# EAGLE library part AD8307 (library Arsenio_Dev)
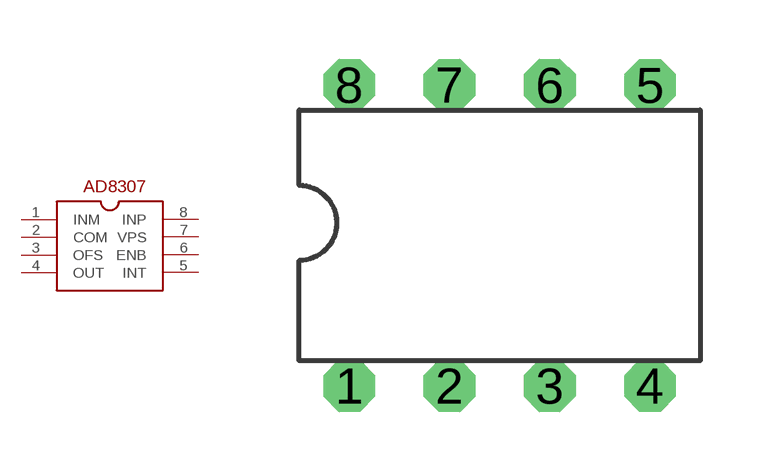
[diagram p2: symbol with the pads of DIP8; footprint DIP8]

Designator prefix -

## AD8307  [DIP8]
1  INM
2  COM
3  OFS
4  OUT
5  INT
6  ENB
7  VPS
8  INP

## Footprint DIP8 (pad centres in mm)
drill 0.8 octagon: 1 -3.81,-3.81; 2 -1.27,-3.81; 3 1.27,-3.81; 4 3.81,-3.81; 5 3.81,3.81; 6 1.27,3.81; 7 -1.27,3.81; 8 -3.81,3.81